# Altium footprint library CONN_TBLOCK_8P25to15P0.PcbLib: 118 footprints (part 1 of 8)
Each footprint in its own frame and in the unit in brackets; x right, y up, seen from the top. Pads: shape width x height; smd on the part's side, far side on the other; paste and mask are expansions set on the pad; w line width, h text height; cw(c..) or ccw(c..) is an arc to the next point about the centre after c.
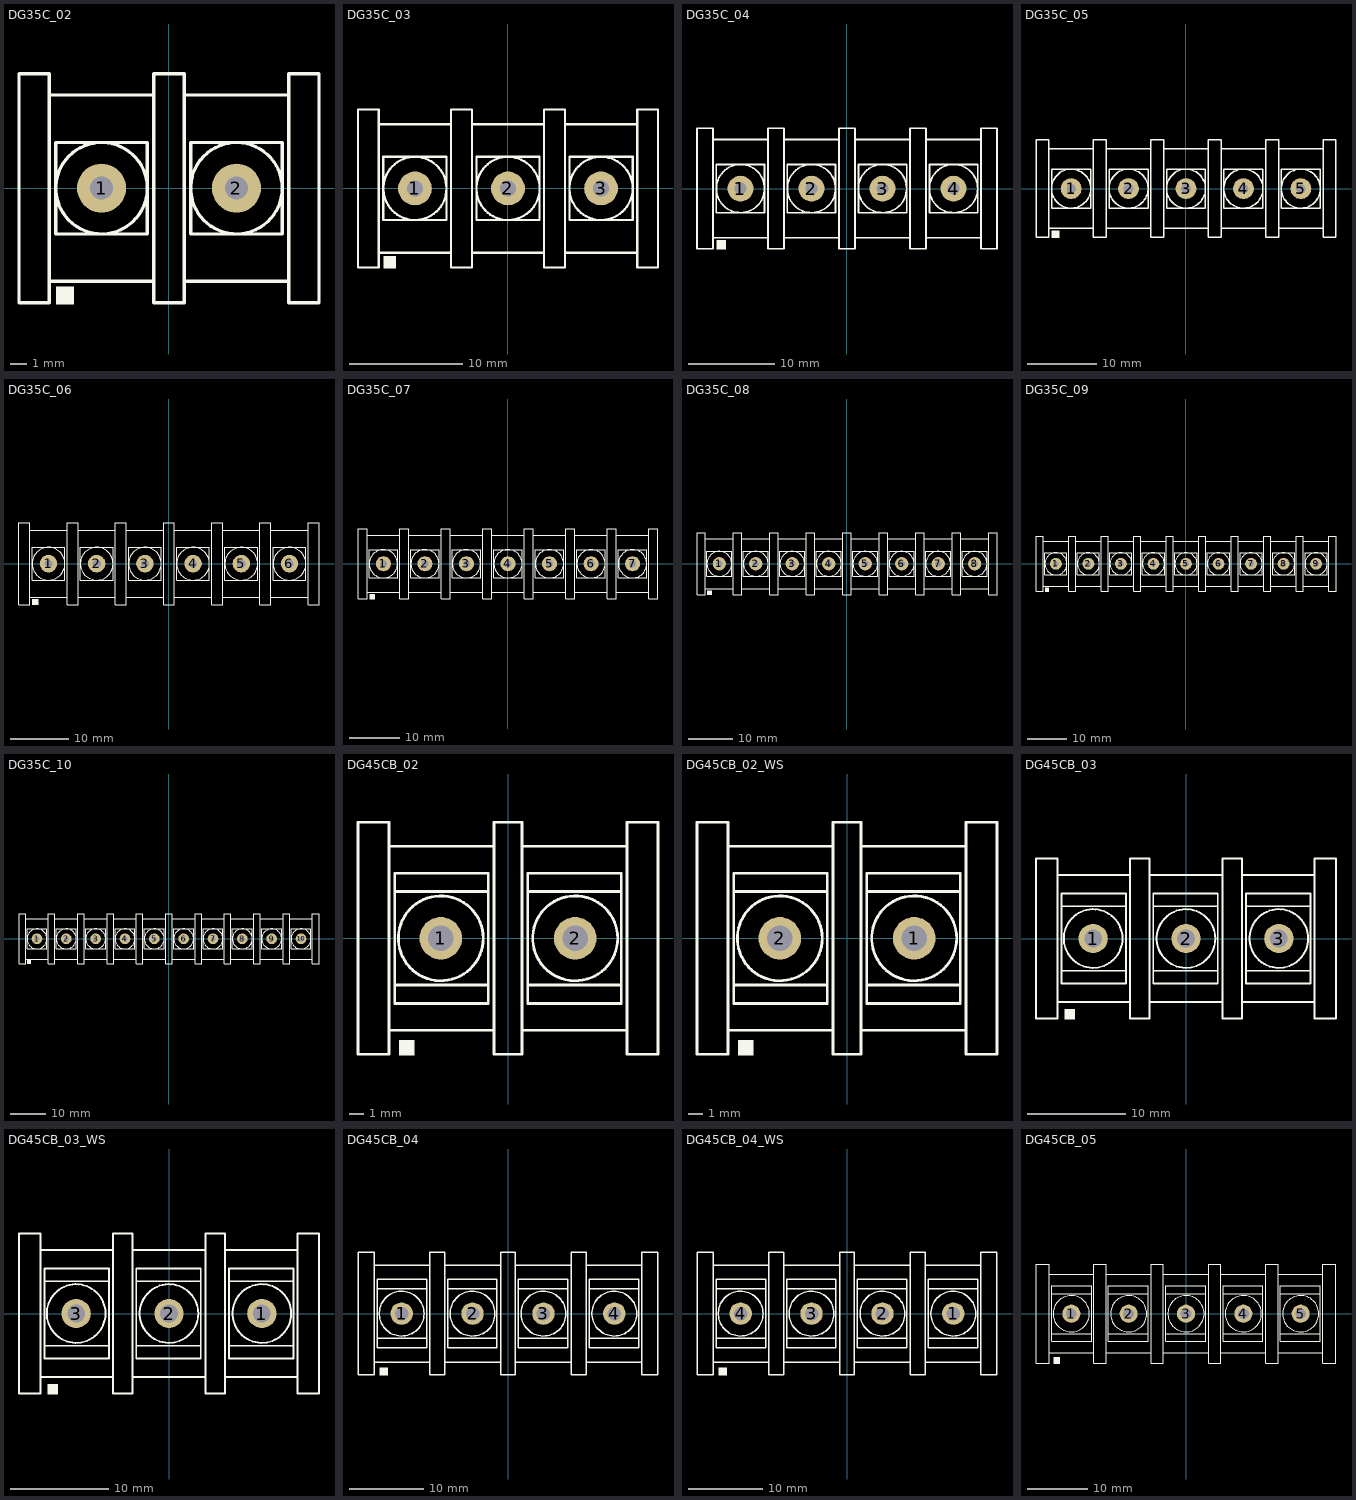
[diagram p0: the footprints below, top view; thin cyan lines are the x and y axes]

## DG35C_02 [mm] "Terminal Block Screw, Pitch 8.25mm, 20A/300v, DG35C= KF35C"
height 15.1
pads (2):
  round 3 / inner round 3 / far side oval 3x5 hole 1.4: 1(-4.125,0) 2(4.125,0)
Top Overlay:
  circle w0.2: c4.125,0 r2.8
  circle w0.2: c-4.125,0 r2.8
  rectangle: -6.925,-7.1 -5.825,-6
  lines w0.2: -7.325,-5.7 -0.925,-5.7 ; -7.325,5.7 -0.925,5.7 ; 0.925,-5.7 7.325,-5.7 ; 0.925,5.7 7.325,5.7 ; -9.175,-7 -9.175,7 -7.325,7 -7.325,-7 -9.175,-7 ; -6.925,-2.8 -6.925,2.8 -1.325,2.8 -1.325,-2.8 -6.925,-2.8 ; -0.925,-7 -0.925,7 0.925,7 0.925,-7 -0.925,-7 ; 1.325,-2.8 1.325,2.8 6.925,2.8 6.925,-2.8 1.325,-2.8 ; 7.325,-7 7.325,7 9.175,7 9.175,-7 7.325,-7
3D body "KF35.STEP": height 15.07, standoff -3.73, extent -9.137,-6.9 9.175,6.9

## DG35C_03 [mm] "Terminal Block Screw, Pitch 8.25mm, 20A/300v, DG35C= KF35C"
height 15.1
pads (3):
  round 3 / inner round 3 / far side oval 3x5 hole 1.4: 1(-8.25,0) 2(0,0) 3(8.25,0)
Top Overlay:
  circle w0.2: c-8.25,0 r2.8
  circle w0.2: c0,0 r2.8
  circle w0.2: c8.25,0 r2.8
  rectangle: -11.05,-7.1 -9.95,-6
  lines w0.2: -11.45,-5.7 -5.05,-5.7 ; -11.45,5.7 -5.05,5.7 ; -3.2,-5.7 3.2,-5.7 ; -3.2,5.7 3.2,5.7 ; 5.05,-5.7 11.45,-5.7 ; 5.05,5.7 11.45,5.7 ; -13.3,-7 -11.45,-7 -11.45,7 -13.3,7 -13.3,-7 ; -11.05,-2.8 -5.45,-2.8 -5.45,2.8 -11.05,2.8 -11.05,-2.8 ; -5.05,-7 -3.2,-7 -3.2,7 -5.05,7 -5.05,-7 ; -2.8,-2.8 2.8,-2.8 2.8,2.8 -2.8,2.8 -2.8,-2.8 ; 3.2,-7 5.05,-7 5.05,7 3.2,7 3.2,-7 ; 5.45,-2.8 11.05,-2.8 11.05,2.8 5.45,2.8 5.45,-2.8 ; 11.45,-7 13.3,-7 13.3,7 11.45,7 11.45,-7
3D body "KF35.STEP": height 15.07, standoff -3.73, extent -5.112,-6.9 13.2,6.9
3D body "KF35.STEP": height 15.07, standoff -3.73, extent -13.262,-6.9 5.05,6.9

## DG35C_04 [mm] "Terminal Block Screw, Pitch 8.25mm, 20A/300v, DG35C= KF35C"
height 15.1
pads (4):
  round 3 / inner round 3 / far side oval 3x5 hole 1.4: 1(-12.375,0) 2(-4.125,0) 3(4.125,0) 4(12.375,0)
Top Overlay:
  circle w0.2: c12.375,0 r2.8
  circle w0.2: c4.125,0 r2.8
  circle w0.2: c-4.125,0 r2.8
  circle w0.2: c-12.375,0 r2.8
  rectangle: -15.175,-7.1 -14.075,-6
  lines w0.2: -15.575,-5.7 -9.175,-5.7 ; -15.575,5.7 -9.175,5.7 ; -7.325,-5.7 -0.925,-5.7 ; -7.325,5.7 -0.925,5.7 ; 0.925,-5.7 7.325,-5.7 ; 0.925,5.7 7.325,5.7 ; 9.175,-5.7 15.575,-5.7 ; 9.175,5.7 15.575,5.7 ; -17.425,-7 -17.425,7 -15.575,7 -15.575,-7 -17.425,-7 ; -15.175,-2.8 -15.175,2.8 -9.575,2.8 -9.575,-2.8 -15.175,-2.8 ; -9.175,-7 -9.175,7 -7.325,7 -7.325,-7 -9.175,-7 ; -6.925,-2.8 -6.925,2.8 -1.325,2.8 -1.325,-2.8 -6.925,-2.8 ; -0.925,-7 -0.925,7 0.925,7 0.925,-7 -0.925,-7 ; 1.325,-2.8 1.325,2.8 6.925,2.8 6.925,-2.8 1.325,-2.8 ; 7.325,-7 7.325,7 9.175,7 9.175,-7 7.325,-7 ; 9.575,-2.8 9.575,2.8 15.175,2.8 15.175,-2.8 9.575,-2.8 ; 15.575,-7 15.575,7 17.425,7 17.425,-7 15.575,-7
3D body "KF35.STEP": height 15.07, standoff -3.73, extent -0.987,-6.9 17.325,6.9
3D body "KF35.STEP": height 15.07, standoff -3.73, extent -17.387,-6.9 0.925,6.9

## DG35C_05 [mm] "Terminal Block Screw, Pitch 8.25mm, 20A/300v, DG35C= KF35C"
height 15.1
pads (5):
  round 3 / inner round 3 / far side oval 3x5 hole 1.4: 1(-16.5,0) 2(-8.25,0) 3(0,0) 4(8.25,0) 5(16.5,0)
Top Overlay:
  circle w0.2: c16.5,0 r2.8
  circle w0.2: c8.25,0 r2.8
  circle w0.2: c0,0 r2.8
  circle w0.2: c-8.25,0 r2.8
  circle w0.2: c-16.5,0 r2.8
  rectangle: -19.3,-7.1 -18.2,-6
  lines w0.2: -19.7,-5.7 -13.3,-5.7 ; -19.7,5.7 -13.3,5.7 ; -11.45,-5.7 -5.05,-5.7 ; -11.45,5.7 -5.05,5.7 ; -3.2,-5.7 3.2,-5.7 ; -3.2,5.7 3.2,5.7 ; 5.05,-5.7 11.45,-5.7 ; 5.05,5.7 11.45,5.7 ; 13.3,-5.7 19.7,-5.7 ; 13.3,5.7 19.7,5.7 ; -21.55,-7 -21.55,7 -19.7,7 -19.7,-7 -21.55,-7 ; -19.3,-2.8 -19.3,2.8 -13.7,2.8 -13.7,-2.8 -19.3,-2.8 ; -13.3,-7 -13.3,7 -11.45,7 -11.45,-7 -13.3,-7 ; -11.05,-2.8 -11.05,2.8 -5.45,2.8 -5.45,-2.8 -11.05,-2.8 ; -5.05,-7 -5.05,7 -3.2,7 -3.2,-7 -5.05,-7 ; -2.8,-2.8 -2.8,2.8 2.8,2.8 2.8,-2.8 -2.8,-2.8 ; 3.2,-7 3.2,7 5.05,7 5.05,-7 3.2,-7 ; 5.45,-2.8 5.45,2.8 11.05,2.8 11.05,-2.8 5.45,-2.8 ; 11.45,-7 11.45,7 13.3,7 13.3,-7 11.45,-7 ; 13.7,-2.8 13.7,2.8 19.3,2.8 19.3,-2.8 13.7,-2.8 ; 19.7,-7 19.7,7 21.55,7 21.55,-7 19.7,-7
3D body "KF35.STEP": height 15.07, standoff -3.73, extent -5.112,-6.9 13.2,6.9
3D body "KF35.STEP": height 15.07, standoff -3.73, extent -21.512,-6.9 -3.2,6.9
3D body "KF35.STEP": height 15.07, standoff -3.73, extent 3.238,-6.9 21.55,6.9

## DG35C_06 [mm] "Terminal Block Screw, Pitch 8.25mm, 20A/300v, DG35C= KF35C"
height 15.1
pads (6):
  round 3 / inner round 3 / far side oval 3x5 hole 1.4: 1(-20.625,0) 2(-12.375,0) 3(-4.125,0) 4(4.125,0) 5(12.375,0) 6(20.625,0)
Top Overlay:
  circle w0.2: c20.625,0 r2.8
  circle w0.2: c-20.625,0 r2.8
  circle w0.2: c-12.375,0 r2.8
  circle w0.2: c-4.125,0 r2.8
  circle w0.2: c4.125,0 r2.8
  circle w0.2: c12.375,0 r2.8
  rectangle: -23.425,-7.1 -22.325,-6
  lines w0.2: -23.825,-5.7 -17.425,-5.7 ; -23.825,5.7 -17.425,5.7 ; -15.575,-5.7 -9.175,-5.7 ; -15.575,5.7 -9.175,5.7 ; -7.325,-5.7 -0.925,-5.7 ; -7.325,5.7 -0.925,5.7 ; 0.925,-5.7 7.325,-5.7 ; 0.925,5.7 7.325,5.7 ; 9.175,-5.7 15.575,-5.7 ; 9.175,5.7 15.575,5.7 ; 17.425,-5.7 23.825,-5.7 ; 17.425,5.7 23.825,5.7 ; -25.675,-7 -23.825,-7 -23.825,7 -25.675,7 -25.675,-7 ; -23.425,-2.8 -17.825,-2.8 -17.825,2.8 -23.425,2.8 -23.425,-2.8 ; -17.425,-7 -15.575,-7 -15.575,7 -17.425,7 -17.425,-7 ; -15.175,-2.8 -9.575,-2.8 -9.575,2.8 -15.175,2.8 -15.175,-2.8 ; -9.175,-7 -7.325,-7 -7.325,7 -9.175,7 -9.175,-7 ; -6.925,-2.8 -1.325,-2.8 -1.325,2.8 -6.925,2.8 -6.925,-2.8 ; -0.925,-7 0.925,-7 0.925,7 -0.925,7 -0.925,-7 ; 1.325,-2.8 6.925,-2.8 6.925,2.8 1.325,2.8 1.325,-2.8 ; 7.325,-7 9.175,-7 9.175,7 7.325,7 7.325,-7 ; 9.575,-2.8 15.175,-2.8 15.175,2.8 9.575,2.8 9.575,-2.8 ; 15.575,-7 17.425,-7 17.425,7 15.575,7 15.575,-7 ; 17.825,-2.8 23.425,-2.8 23.425,2.8 17.825,2.8 17.825,-2.8 ; 23.825,-7 25.675,-7 25.675,7 23.825,7 23.825,-7
3D body "KF35.STEP": height 15.07, standoff -3.73, extent 7.363,-6.9 25.675,6.9
3D body "KF35.STEP": height 15.07, standoff -3.73, extent -25.637,-6.9 -7.325,6.9
3D body "KF35.STEP": height 15.07, standoff -3.73, extent -9.237,-6.9 9.075,6.9

## DG35C_07 [mm] "Terminal Block Screw, Pitch 8.25mm, 20A/300v, DG35C= KF35C"
height 15.1
pads (7):
  round 3 / inner round 3 / far side oval 3x5 hole 1.4: 1(-24.75,0) 2(-16.5,0) 3(-8.25,0) 4(0,0) 5(8.25,0) 6(16.5,0) 7(24.75,0)
Top Overlay:
  circle w0.2: c-24.75,0 r2.8
  circle w0.2: c-16.5,0 r2.8
  circle w0.2: c-8.25,0 r2.8
  circle w0.2: c0,0 r2.8
  circle w0.2: c8.25,0 r2.8
  circle w0.2: c16.5,0 r2.8
  circle w0.2: c24.75,0 r2.8
  rectangle: -27.55,-7.1 -26.45,-6
  lines w0.2: -27.95,-5.7 -21.55,-5.7 ; -27.95,5.7 -21.55,5.7 ; -19.7,-5.7 -13.3,-5.7 ; -19.7,5.7 -13.3,5.7 ; -11.45,-5.7 -5.05,-5.7 ; -11.45,5.7 -5.05,5.7 ; -3.2,-5.7 3.2,-5.7 ; -3.2,5.7 3.2,5.7 ; 5.05,-5.7 11.45,-5.7 ; 5.05,5.7 11.45,5.7 ; 13.3,-5.7 19.7,-5.7 ; 13.3,5.7 19.7,5.7 ; 21.55,-5.7 27.95,-5.7 ; 21.55,5.7 27.95,5.7 ; -29.8,-7 -27.95,-7 -27.95,7 -29.8,7 -29.8,-7 ; -27.55,-2.8 -21.95,-2.8 -21.95,2.8 -27.55,2.8 -27.55,-2.8 ; -21.55,-7 -19.7,-7 -19.7,7 -21.55,7 -21.55,-7 ; -19.3,-2.8 -13.7,-2.8 -13.7,2.8 -19.3,2.8 -19.3,-2.8 ; -13.3,-7 -11.45,-7 -11.45,7 -13.3,7 -13.3,-7 ; -11.05,-2.8 -5.45,-2.8 -5.45,2.8 -11.05,2.8 -11.05,-2.8 ; -5.05,-7 -3.2,-7 -3.2,7 -5.05,7 -5.05,-7 ; -2.8,-2.8 2.8,-2.8 2.8,2.8 -2.8,2.8 -2.8,-2.8 ; 3.2,-7 5.05,-7 5.05,7 3.2,7 3.2,-7 ; 5.45,-2.8 11.05,-2.8 11.05,2.8 5.45,2.8 5.45,-2.8 ; 11.45,-7 13.3,-7 13.3,7 11.45,7 11.45,-7 ; 13.7,-2.8 19.3,-2.8 19.3,2.8 13.7,2.8 13.7,-2.8 ; 19.7,-7 21.55,-7 21.55,7 19.7,7 19.7,-7 ; 21.95,-2.8 27.55,-2.8 27.55,2.8 21.95,2.8 21.95,-2.8 ; 27.95,-7 29.8,-7 29.8,7 27.95,7 27.95,-7
3D body "KF35.STEP": height 15.07, standoff -3.73, extent 11.488,-6.9 29.8,6.9
3D body "KF35.STEP": height 15.07, standoff -3.73, extent -29.762,-6.9 -11.45,6.9
3D body "KF35.STEP": height 15.07, standoff -3.73, extent -13.362,-6.9 4.95,6.9
3D body "KF35.STEP": height 15.07, standoff -3.73, extent 3.238,-6.9 21.55,6.9

## DG35C_08 [mm] "Terminal Block Screw, Pitch 8.25mm, 20A/300v, DG35C= KF35C"
height 15.1
pads (8):
  round 3 / inner round 3 / far side oval 3x5 hole 1.4: 1(-28.875,0) 2(-20.625,0) 3(-12.375,0) 4(-4.125,0) 5(4.125,0) 6(12.375,0) 7(20.625,0) 8(28.875,0)
Top Overlay:
  circle w0.2: c-28.875,0 r2.8
  circle w0.2: c-20.625,0 r2.8
  circle w0.2: c-12.375,0 r2.8
  circle w0.2: c-4.125,0 r2.8
  circle w0.2: c4.125,0 r2.8
  circle w0.2: c12.375,0 r2.8
  circle w0.2: c20.625,0 r2.8
  circle w0.2: c28.875,0 r2.8
  rectangle: -31.675,-7.1 -30.575,-6
  lines w0.2: -32.075,-5.7 -25.675,-5.7 ; -32.075,5.7 -25.675,5.7 ; -23.825,-5.7 -17.425,-5.7 ; -23.825,5.7 -17.425,5.7 ; -15.575,-5.7 -9.175,-5.7 ; -15.575,5.7 -9.175,5.7 ; -7.325,-5.7 -0.925,-5.7 ; -7.325,5.7 -0.925,5.7 ; 0.925,-5.7 7.325,-5.7 ; 0.925,5.7 7.325,5.7 ; 9.175,-5.7 15.575,-5.7 ; 9.175,5.7 15.575,5.7 ; 17.425,-5.7 23.825,-5.7 ; 17.425,5.7 23.825,5.7 ; 25.675,-5.7 32.075,-5.7 ; 25.675,5.7 32.075,5.7 ; -33.925,-7 -32.075,-7 -32.075,7 -33.925,7 -33.925,-7 ; -31.675,-2.8 -26.075,-2.8 -26.075,2.8 -31.675,2.8 -31.675,-2.8 ; -25.675,-7 -23.825,-7 -23.825,7 -25.675,7 -25.675,-7 ; -23.425,-2.8 -17.825,-2.8 -17.825,2.8 -23.425,2.8 -23.425,-2.8 ; -17.425,-7 -15.575,-7 -15.575,7 -17.425,7 -17.425,-7 ; -15.175,-2.8 -9.575,-2.8 -9.575,2.8 -15.175,2.8 -15.175,-2.8 ; -9.175,-7 -7.325,-7 -7.325,7 -9.175,7 -9.175,-7 ; -6.925,-2.8 -1.325,-2.8 -1.325,2.8 -6.925,2.8 -6.925,-2.8 ; -0.925,-7 0.925,-7 0.925,7 -0.925,7 -0.925,-7 ; 1.325,-2.8 6.925,-2.8 6.925,2.8 1.325,2.8 1.325,-2.8 ; 7.325,-7 9.175,-7 9.175,7 7.325,7 7.325,-7 ; 9.575,-2.8 15.175,-2.8 15.175,2.8 9.575,2.8 9.575,-2.8 ; 15.575,-7 17.425,-7 17.425,7 15.575,7 15.575,-7 ; 17.825,-2.8 23.425,-2.8 23.425,2.8 17.825,2.8 17.825,-2.8 ; 23.825,-7 25.675,-7 25.675,7 23.825,7 23.825,-7 ; 26.075,-2.8 31.675,-2.8 31.675,2.8 26.075,2.8 26.075,-2.8 ; 32.075,-7 33.925,-7 33.925,7 32.075,7 32.075,-7
3D body "KF35.STEP": height 15.07, standoff -3.73, extent -33.887,-6.9 -15.575,6.9
3D body "KF35.STEP": height 15.07, standoff -3.73, extent -17.487,-6.9 0.825,6.9
3D body "KF35.STEP": height 15.07, standoff -3.73, extent -0.887,-6.9 17.425,6.9
3D body "KF35.STEP": height 15.07, standoff -3.73, extent 15.513,-6.9 33.825,6.9

## DG35C_09 [mm] "Terminal Block Screw, Pitch 8.25mm, 20A/300v, DG35C= KF35C"
height 15.1
pads (9):
  round 3 / inner round 3 / far side oval 3x5 hole 1.4: 1(-33,0) 2(-24.75,0) 3(-16.5,0) 4(-8.25,0) 5(0,0) 6(8.25,0) 7(16.5,0) 8(24.75,0) 9(33,0)
Top Overlay:
  circle w0.2: c33,0 r2.8
  circle w0.2: c24.75,0 r2.8
  circle w0.2: c16.5,0 r2.8
  circle w0.2: c8.25,0 r2.8
  circle w0.2: c0,0 r2.8
  circle w0.2: c-8.25,0 r2.8
  circle w0.2: c-16.5,0 r2.8
  circle w0.2: c-24.75,0 r2.8
  circle w0.2: c-33,0 r2.8
  rectangle: -35.8,-7.1 -34.7,-6
  lines w0.2: -36.2,-5.7 -29.8,-5.7 ; -36.2,5.7 -29.8,5.7 ; -27.95,-5.7 -21.55,-5.7 ; -27.95,5.7 -21.55,5.7 ; -19.7,-5.7 -13.3,-5.7 ; -19.7,5.7 -13.3,5.7 ; -11.45,-5.7 -5.05,-5.7 ; -11.45,5.7 -5.05,5.7 ; -3.2,-5.7 3.2,-5.7 ; -3.2,5.7 3.2,5.7 ; 5.05,-5.7 11.45,-5.7 ; 5.05,5.7 11.45,5.7 ; 13.3,-5.7 19.7,-5.7 ; 13.3,5.7 19.7,5.7 ; 21.55,-5.7 27.95,-5.7 ; 21.55,5.7 27.95,5.7 ; 29.8,-5.7 36.2,-5.7 ; 29.8,5.7 36.2,5.7 ; -38.05,-7 -38.05,7 -36.2,7 -36.2,-7 -38.05,-7 ; -35.8,-2.8 -35.8,2.8 -30.2,2.8 -30.2,-2.8 -35.8,-2.8 ; -29.8,-7 -29.8,7 -27.95,7 -27.95,-7 -29.8,-7 ; -27.55,-2.8 -27.55,2.8 -21.95,2.8 -21.95,-2.8 -27.55,-2.8 ; -21.55,-7 -21.55,7 -19.7,7 -19.7,-7 -21.55,-7 ; -19.3,-2.8 -19.3,2.8 -13.7,2.8 -13.7,-2.8 -19.3,-2.8 ; -13.3,-7 -13.3,7 -11.45,7 -11.45,-7 -13.3,-7 ; -11.05,-2.8 -11.05,2.8 -5.45,2.8 -5.45,-2.8 -11.05,-2.8 ; -5.05,-7 -5.05,7 -3.2,7 -3.2,-7 -5.05,-7 ; -2.8,-2.8 -2.8,2.8 2.8,2.8 2.8,-2.8 -2.8,-2.8 ; 3.2,-7 3.2,7 5.05,7 5.05,-7 3.2,-7 ; 5.45,-2.8 5.45,2.8 11.05,2.8 11.05,-2.8 5.45,-2.8 ; 11.45,-7 11.45,7 13.3,7 13.3,-7 11.45,-7 ; 13.7,-2.8 13.7,2.8 19.3,2.8 19.3,-2.8 13.7,-2.8 ; 19.7,-7 19.7,7 21.55,7 21.55,-7 19.7,-7 ; 21.95,-2.8 21.95,2.8 27.55,2.8 27.55,-2.8 21.95,-2.8 ; 27.95,-7 27.95,7 29.8,7 29.8,-7 27.95,-7 ; 30.2,-2.8 30.2,2.8 35.8,2.8 35.8,-2.8 30.2,-2.8 ; 36.2,-7 36.2,7 38.05,7 38.05,-7 36.2,-7
3D body "KF35.STEP": height 15.07, standoff -3.73, extent 11.388,-6.9 29.7,6.9
3D body "KF35.STEP": height 15.07, standoff -3.73, extent -5.012,-6.9 13.3,6.9
3D body "KF35.STEP": height 15.07, standoff -3.73, extent -21.612,-6.9 -3.3,6.9
3D body "KF35.STEP": height 15.07, standoff -3.73, extent -38.012,-6.9 -19.7,6.9
3D body "KF35.STEP": height 15.07, standoff -3.73, extent 19.738,-6.9 38.05,6.9

## DG35C_10 [mm] "Terminal Block Screw, Pitch 8.25mm, 20A/300v, DG35C= KF35C"
height 15.1
pads (10):
  round 3 / inner round 3 / far side oval 3x5 hole 1.4: 1(-37.125,0) 2(-28.875,0) 3(-20.625,0) 4(-12.375,0) 5(-4.125,0) 6(4.125,0) 7(12.375,0) 8(20.625,0) 9(28.875,0) 10(37.125,0)
Top Overlay:
  circle w0.2: c-37.125,0 r2.8
  circle w0.2: c-28.875,0 r2.8
  circle w0.2: c-20.625,0 r2.8
  circle w0.2: c-12.375,0 r2.8
  circle w0.2: c-4.125,0 r2.8
  circle w0.2: c4.125,0 r2.8
  circle w0.2: c12.375,0 r2.8
  circle w0.2: c20.625,0 r2.8
  circle w0.2: c28.875,0 r2.8
  circle w0.2: c37.125,0 r2.8
  rectangle: -39.925,-7.1 -38.825,-6
  lines w0.2: -40.325,-5.7 -33.925,-5.7 ; -40.325,5.7 -33.925,5.7 ; -32.075,-5.7 -25.675,-5.7 ; -32.075,5.7 -25.675,5.7 ; -23.825,-5.7 -17.425,-5.7 ; -23.825,5.7 -17.425,5.7 ; -15.575,-5.7 -9.175,-5.7 ; -15.575,5.7 -9.175,5.7 ; -7.325,-5.7 -0.925,-5.7 ; -7.325,5.7 -0.925,5.7 ; 0.925,-5.7 7.325,-5.7 ; 0.925,5.7 7.325,5.7 ; 9.175,-5.7 15.575,-5.7 ; 9.175,5.7 15.575,5.7 ; 17.425,-5.7 23.825,-5.7 ; 17.425,5.7 23.825,5.7 ; 25.675,-5.7 32.075,-5.7 ; 25.675,5.7 32.075,5.7 ; 33.925,-5.7 40.325,-5.7 ; 33.925,5.7 40.325,5.7 ; -42.175,-7 -40.325,-7 -40.325,7 -42.175,7 -42.175,-7 ; -39.925,-2.8 -34.325,-2.8 -34.325,2.8 -39.925,2.8 -39.925,-2.8 ; -33.925,-7 -32.075,-7 -32.075,7 -33.925,7 -33.925,-7 ; -31.675,-2.8 -26.075,-2.8 -26.075,2.8 -31.675,2.8 -31.675,-2.8 ; -25.675,-7 -23.825,-7 -23.825,7 -25.675,7 -25.675,-7 ; -23.425,-2.8 -17.825,-2.8 -17.825,2.8 -23.425,2.8 -23.425,-2.8 ; -17.425,-7 -15.575,-7 -15.575,7 -17.425,7 -17.425,-7 ; -15.175,-2.8 -9.575,-2.8 -9.575,2.8 -15.175,2.8 -15.175,-2.8 ; -9.175,-7 -7.325,-7 -7.325,7 -9.175,7 -9.175,-7 ; -6.925,-2.8 -1.325,-2.8 -1.325,2.8 -6.925,2.8 -6.925,-2.8 ; -0.925,-7 0.925,-7 0.925,7 -0.925,7 -0.925,-7 ; 1.325,-2.8 6.925,-2.8 6.925,2.8 1.325,2.8 1.325,-2.8 ; 7.325,-7 9.175,-7 9.175,7 7.325,7 7.325,-7 ; 9.575,-2.8 15.175,-2.8 15.175,2.8 9.575,2.8 9.575,-2.8 ; 15.575,-7 17.425,-7 17.425,7 15.575,7 15.575,-7 ; 17.825,-2.8 23.425,-2.8 23.425,2.8 17.825,2.8 17.825,-2.8 ; 23.825,-7 25.675,-7 25.675,7 23.825,7 23.825,-7 ; 26.075,-2.8 31.675,-2.8 31.675,2.8 26.075,2.8 26.075,-2.8 ; 32.075,-7 33.925,-7 33.925,7 32.075,7 32.075,-7 ; 34.325,-2.8 39.925,-2.8 39.925,2.8 34.325,2.8 34.325,-2.8 ; 40.325,-7 42.175,-7 42.175,7 40.325,7 40.325,-7
3D body "KF35.STEP": height 15.07, standoff -3.73, extent -42.137,-6.9 -23.825,6.9
3D body "KF35.STEP": height 15.07, standoff -3.73, extent -25.737,-6.9 -7.425,6.9
3D body "KF35.STEP": height 15.07, standoff -3.73, extent -9.137,-6.9 9.175,6.9
3D body "KF35.STEP": height 15.07, standoff -3.73, extent 7.263,-6.9 25.575,6.9
3D body "KF35.STEP": height 15.07, standoff -3.73, extent 23.863,-6.9 42.175,6.9

## DG45CB_02 [mm] "Terminal Block Screw, Pitch 9.5mm, 20A/300v"
height 20
pads (2):
  round 3 / inner round 3 / far side oval 3.5x5 hole 1.8: 1(-4.75,0) 2(4.75,0)
Top Overlay:
  circle w0.2: c-4.75,0 r3
  circle w0.2: c4.75,0 r3
  rectangle: -7.7,-8.3 -6.6,-7.2
  lines w0.2: -8.4,-6.5 -1,-6.5 ; -8.4,6.5 -1,6.5 ; -8,-3.3 -1.4,-3.3 ; -8,3.3 -1.4,3.3 ; 1,-8.2 1,8.2 ; 1,-6.5 8.4,-6.5 ; 1,6.5 8.4,6.5 ; 1,-8.2 -1,-8.2 -1,8.2 1,8.2 ; 1.4,-3.3 8,-3.3 ; 1.4,3.3 8,3.3 ; -10.6,-8.2 -10.6,8.2 -8.4,8.2 -8.4,-8.2 -10.6,-8.2 ; -8,-4.6 -8,4.6 -1.4,4.6 -1.4,-4.6 -8,-4.6 ; 1.4,-4.6 8,-4.6 8,4.6 1.4,4.6 1.4,-4.6 ; 8.4,-8.2 10.6,-8.2 10.6,8.2 8.4,8.2 8.4,-8.2
3D body "DG45C-B-02P-13.stp": height 18.4, standoff -5.19, extent -10.45,-8.15 10.45,8.15

## DG45CB_02_WS [mm] "Terminal Block Screw, Pitch 9.5mm, 20A/300v, with Spade"
height 19
pads (2):
  round 3 / inner round 3 / far side oval 3.5x5 hole 1.8: 1(4.75,0) 2(-4.75,0)
Top Overlay:
  circle w0.2: c-4.75,0 r3
  circle w0.2: c4.75,0 r3
  rectangle: -7.7,-8.3 -6.6,-7.2
  lines w0.2: -8.4,-6.5 -1,-6.5 ; -8.4,6.5 -1,6.5 ; -8,-3.3 -1.4,-3.3 ; -8,3.3 -1.4,3.3 ; 1,-8.2 1,8.2 ; 1,-6.5 8.4,-6.5 ; 1,6.5 8.4,6.5 ; 1,-8.2 -1,-8.2 -1,8.2 1,8.2 ; 1.4,-3.3 8,-3.3 ; 1.4,3.3 8,3.3 ; -10.6,-8.2 -10.6,8.2 -8.4,8.2 -8.4,-8.2 -10.6,-8.2 ; -8,-4.6 -8,4.6 -1.4,4.6 -1.4,-4.6 -8,-4.6 ; 1.4,-4.6 8,-4.6 8,4.6 1.4,4.6 1.4,-4.6 ; 8.4,-8.2 10.6,-8.2 10.6,8.2 8.4,8.2 8.4,-8.2
3D body "SV5.5-3.5-tin.step": height 17.15, standoff 9.25, extent -8.9,-3.792 -0.6,21.7
3D body "SV5.5-3.5-tin.step": height 17.15, standoff 9.25, extent 0.6,-3.792 8.9,21.7
3D body "DG45C-B-02P-13.stp": height 18.4, standoff -5.19, extent -10.45,-8.15 10.45,8.15

## DG45CB_03 [mm] "Terminal Block Screw, Pitch 9.5mm, 20A/300v"
height 20
pads (3):
  round 3 / inner round 3 / far side oval 3.5x5 hole 1.8: 1(-9.5,0) 2(0,0) 3(9.5,0)
Top Overlay:
  circle w0.2: c0,0 r3
  circle w0.2: c-9.5,0 r3
  circle w0.2: c9.5,0 r3
  rectangle: -12.45,-8.3 -11.35,-7.2
  lines w0.2: -13.15,-6.5 -5.75,-6.5 ; -13.15,6.5 -5.75,6.5 ; -12.75,-3.3 -6.15,-3.3 ; -12.75,3.3 -6.15,3.3 ; -3.75,-6.5 3.65,-6.5 ; -3.75,6.5 3.65,6.5 ; -3.35,-3.3 3.25,-3.3 ; -3.35,3.3 3.25,3.3 ; 5.75,-6.5 13.15,-6.5 ; 5.75,6.5 13.15,6.5 ; 6.15,-3.3 12.75,-3.3 ; 6.15,3.3 12.75,3.3 ; -15.35,-8.2 -13.15,-8.2 -13.15,8.2 -15.35,8.2 -15.35,-8.2 ; -12.75,-4.6 -6.15,-4.6 -6.15,4.6 -12.75,4.6 -12.75,-4.6 ; -5.75,-8.2 -5.75,8.2 -3.75,8.2 -3.75,-8.2 -5.75,-8.2 ; -3.35,-4.6 -3.35,4.6 3.25,4.6 3.25,-4.6 -3.35,-4.6 ; 3.75,-8.2 5.75,-8.2 5.75,8.2 3.75,8.2 3.75,-8.2 ; 6.15,-4.6 12.75,-4.6 12.75,4.6 6.15,4.6 6.15,-4.6 ; 13.15,-8.2 13.15,8.2 15.35,8.2 15.35,-8.2 13.15,-8.2
3D body "DG45C-B-03P-13.stp": height 18.4, standoff -5.19, extent -15.2,-8.15 15.2,8.15

## DG45CB_03_WS [mm] "Terminal Block Screw, Pitch 9.5mm, 20A/300v, with Spade"
height 19
pads (3):
  round 3 / inner round 3 / far side oval 3.5x5 hole 1.8: 1(9.5,0) 2(0,0) 3(-9.5,0)
Top Overlay:
  circle w0.2: c0,0 r3
  circle w0.2: c-9.5,0 r3
  circle w0.2: c9.5,0 r3
  rectangle: -12.45,-8.3 -11.35,-7.2
  lines w0.2: -13.15,-6.5 -5.75,-6.5 ; -13.15,6.5 -5.75,6.5 ; -12.75,-3.3 -6.15,-3.3 ; -12.75,3.3 -6.15,3.3 ; -3.75,-6.5 3.65,-6.5 ; -3.75,6.5 3.65,6.5 ; -3.35,-3.3 3.25,-3.3 ; -3.35,3.3 3.25,3.3 ; 5.75,-6.5 13.15,-6.5 ; 5.75,6.5 13.15,6.5 ; 6.15,-3.3 12.75,-3.3 ; 6.15,3.3 12.75,3.3 ; -15.35,-8.2 -13.15,-8.2 -13.15,8.2 -15.35,8.2 -15.35,-8.2 ; -12.75,-4.6 -6.15,-4.6 -6.15,4.6 -12.75,4.6 -12.75,-4.6 ; -5.75,-8.2 -5.75,8.2 -3.75,8.2 -3.75,-8.2 -5.75,-8.2 ; -3.35,-4.6 -3.35,4.6 3.25,4.6 3.25,-4.6 -3.35,-4.6 ; 3.75,-8.2 5.75,-8.2 5.75,8.2 3.75,8.2 3.75,-8.2 ; 6.15,-4.6 12.75,-4.6 12.75,4.6 6.15,4.6 6.15,-4.6 ; 13.15,-8.2 13.15,8.2 15.35,8.2 15.35,-8.2 13.15,-8.2
3D body "DG45C-B-03P-13.stp": height 18.4, standoff -5.19, extent -15.2,-8.15 15.2,8.15
3D body "SV5.5-3.5-tin.step": height 17.15, standoff 9.25, extent 5.35,-3.792 13.65,21.7
3D body "SV5.5-3.5-tin.step": height 17.15, standoff 9.25, extent -4.34,-3.792 3.96,21.7
3D body "SV5.5-3.5-tin.step": height 17.15, standoff 9.25, extent -13.65,-3.792 -5.35,21.7

## DG45CB_04 [mm] "Terminal Block Screw, Pitch 9.5mm, 20A/300v"
height 20
pads (4):
  round 3 / inner round 3 / far side oval 3.5x5 hole 1.8: 1(-14.25,0) 2(-4.75,0) 3(4.75,0) 4(14.25,0)
Top Overlay:
  circle w0.2: c4.75,0 r3
  circle w0.2: c-14.25,0 r3
  circle w0.2: c-4.75,0 r3
  circle w0.2: c14.25,0 r3
  rectangle: -17.2,-8.3 -16.1,-7.2
  lines w0.2: -17.9,-6.5 -10.5,-6.5 ; -17.9,6.5 -10.5,6.5 ; -17.5,-3.3 -10.9,-3.3 ; -17.5,3.3 -10.9,3.3 ; -8.5,-6.5 -1.1,-6.5 ; -8.5,6.5 -1.1,6.5 ; -8.1,-3.3 -1.5,-3.3 ; -8.1,3.3 -1.5,3.3 ; 1,-8.2 1,8.2 ; 1,-6.5 8.4,-6.5 ; 1,6.5 8.4,6.5 ; 1,-8.2 -1,-8.2 -1,8.2 1,8.2 ; 1.4,-3.3 8,-3.3 ; 1.4,3.3 8,3.3 ; 10.5,-6.5 17.9,-6.5 ; 10.5,6.5 17.9,6.5 ; 10.9,-3.3 17.5,-3.3 ; 10.9,3.3 17.5,3.3 ; -20.1,-8.2 -20.1,8.2 -17.9,8.2 -17.9,-8.2 -20.1,-8.2 ; -17.5,-4.6 -17.5,4.6 -10.9,4.6 -10.9,-4.6 -17.5,-4.6 ; -10.5,-8.2 -8.5,-8.2 -8.5,8.2 -10.5,8.2 -10.5,-8.2 ; -8.1,-4.6 -1.5,-4.6 -1.5,4.6 -8.1,4.6 -8.1,-4.6 ; 1.4,-4.6 1.4,4.6 8,4.6 8,-4.6 1.4,-4.6 ; 8.5,-8.2 8.5,8.2 10.5,8.2 10.5,-8.2 8.5,-8.2 ; 10.9,-4.6 10.9,4.6 17.5,4.6 17.5,-4.6 10.9,-4.6 ; 17.9,-8.2 20.1,-8.2 20.1,8.2 17.9,8.2 17.9,-8.2
3D body "DG45C-B-04P-13.stp": height 18.4, standoff -5.19, extent -19.95,-8.15 19.95,8.15

## DG45CB_04_WS [mm] "Terminal Block Screw, Pitch 9.5mm, 20A/300v, with Spade"
height 19
pads (4):
  round 3 / inner round 3 / far side oval 3.5x5 hole 1.8: 1(14.25,0) 2(4.75,0) 3(-4.75,0) 4(-14.25,0)
Top Overlay:
  circle w0.2: c4.75,0 r3
  circle w0.2: c-14.25,0 r3
  circle w0.2: c-4.75,0 r3
  circle w0.2: c14.25,0 r3
  rectangle: -17.2,-8.3 -16.1,-7.2
  lines w0.2: -17.9,-6.5 -10.5,-6.5 ; -17.9,6.5 -10.5,6.5 ; -17.5,-3.3 -10.9,-3.3 ; -17.5,3.3 -10.9,3.3 ; -8.5,-6.5 -1.1,-6.5 ; -8.5,6.5 -1.1,6.5 ; -8.1,-3.3 -1.5,-3.3 ; -8.1,3.3 -1.5,3.3 ; 1,-8.2 1,8.2 ; 1,-6.5 8.4,-6.5 ; 1,6.5 8.4,6.5 ; 1,-8.2 -1,-8.2 -1,8.2 1,8.2 ; 1.4,-3.3 8,-3.3 ; 1.4,3.3 8,3.3 ; 10.5,-6.5 17.9,-6.5 ; 10.5,6.5 17.9,6.5 ; 10.9,-3.3 17.5,-3.3 ; 10.9,3.3 17.5,3.3 ; -20.1,-8.2 -20.1,8.2 -17.9,8.2 -17.9,-8.2 -20.1,-8.2 ; -17.5,-4.6 -17.5,4.6 -10.9,4.6 -10.9,-4.6 -17.5,-4.6 ; -10.5,-8.2 -8.5,-8.2 -8.5,8.2 -10.5,8.2 -10.5,-8.2 ; -8.1,-4.6 -1.5,-4.6 -1.5,4.6 -8.1,4.6 -8.1,-4.6 ; 1.4,-4.6 1.4,4.6 8,4.6 8,-4.6 1.4,-4.6 ; 8.5,-8.2 8.5,8.2 10.5,8.2 10.5,-8.2 8.5,-8.2 ; 10.9,-4.6 10.9,4.6 17.5,4.6 17.5,-4.6 10.9,-4.6 ; 17.9,-8.2 20.1,-8.2 20.1,8.2 17.9,8.2 17.9,-8.2
3D body "DG45C-B-04P-13.stp": height 18.4, standoff -5.19, extent -19.95,-8.15 19.95,8.15
3D body "SV5.5-3.5-tin.step": height 17.15, standoff 9.25, extent -18.4,-3.792 -10.1,21.7
3D body "SV5.5-3.5-tin.step": height 17.15, standoff 9.25, extent -8.9,-3.792 -0.6,21.7
3D body "SV5.5-3.5-tin.step": height 17.15, standoff 9.25, extent 0.549,-3.792 8.849,21.7
3D body "SV5.5-3.5-tin.step": height 17.15, standoff 9.25, extent 10.1,-3.792 18.4,21.7

## DG45CB_05 [mm] "Terminal Block Screw, Pitch 9.5mm, 20A/300v"
height 20
pads (5):
  round 3 / inner round 3 / far side oval 3.5x5 hole 1.8: 1(-19,0) 2(-9.5,0) 3(0,0) 4(9.5,0) 5(19,0)
Top Overlay:
  circle w0.2: c19,0 r3
  circle w0.2: c9.5,0 r3
  circle w0.2: c-9.5,0 r3
  circle w0.2: c-19,0 r3
  circle w0.2: c0,0 r3
  rectangle: -21.95,-8.3 -20.85,-7.2
  lines w0.2: -22.65,-6.5 -15.25,-6.5 ; -22.65,6.5 -15.25,6.5 ; -22.25,-3.3 -15.65,-3.3 ; -22.25,3.3 -15.65,3.3 ; -13.25,-6.5 -5.85,-6.5 ; -13.25,6.5 -5.85,6.5 ; -12.85,-3.3 -6.25,-3.3 ; -12.85,3.3 -6.25,3.3 ; -3.75,-6.5 3.65,-6.5 ; -3.75,6.5 3.65,6.5 ; -3.35,-3.3 3.25,-3.3 ; -3.35,3.3 3.25,3.3 ; 5.75,-6.5 13.15,-6.5 ; 5.75,6.5 13.15,6.5 ; 6.15,-3.3 12.75,-3.3 ; 6.15,3.3 12.75,3.3 ; 15.25,-6.5 22.65,-6.5 ; 15.25,6.5 22.65,6.5 ; 15.65,-3.3 22.25,-3.3 ; 15.65,3.3 22.25,3.3 ; -24.85,-8.2 -22.65,-8.2 -22.65,8.2 -24.85,8.2 -24.85,-8.2 ; -22.25,-4.6 -15.65,-4.6 -15.65,4.6 -22.25,4.6 -22.25,-4.6 ; -15.25,-8.2 -15.25,8.2 -13.25,8.2 -13.25,-8.2 -15.25,-8.2 ; -12.85,-4.6 -12.85,4.6 -6.25,4.6 -6.25,-4.6 -12.85,-4.6 ; -5.75,-8.2 -3.75,-8.2 -3.75,8.2 -5.75,8.2 -5.75,-8.2 ; -3.35,-4.6 3.25,-4.6 3.25,4.6 -3.35,4.6 -3.35,-4.6 ; 3.75,-8.2 5.75,-8.2 5.75,8.2 3.75,8.2 3.75,-8.2 ; 6.15,-4.6 12.75,-4.6 12.75,4.6 6.15,4.6 6.15,-4.6 ; 13.25,-8.2 15.25,-8.2 15.25,8.2 13.25,8.2 13.25,-8.2 ; 15.65,-4.6 22.25,-4.6 22.25,4.6 15.65,4.6 15.65,-4.6 ; 22.65,-8.2 22.65,8.2 24.85,8.2 24.85,-8.2 22.65,-8.2
3D body "DG45C-B-04P-13.stp": height 18.4, standoff -5.19, extent -24.7,-8.15 15.2,8.15
3D body "DG45C-B-02P-13.stp": height 18.4, standoff -5.19, extent 3.8,-8.15 24.7,8.15